# Altium schematic symbol library 传感器.SchLib: 1 symbol
Pins are listed as number, name and electrical type; pins without a type are passive.

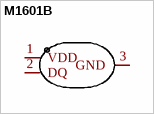
[diagram p0: symbol M1601B]

## M1601B
designator U?  (value not drawn)
Manufacturer: Mysentech(敏源传感); Add into BOM: yes; Resolution: ±0.5℃; Supply Voltage: 1.8V~5.5V; Standby Current: 100nA; Interface Type: 单总线; Symbol: M1601B; Device: M1601B; LCSC Part Name: 单总线数字温度传感器; Supplier Part: C2843547; Manufacturer Part: M1601B; Supplier Footprint: SOT-23; JLCPCB Part Class: Extended Part; Datasheet: https://atta.szlcsc.com/upload/public/pdf/source/20210705/C2843547_C6C05DD308B8FFE894FBD621B7D67F84.pdf; Supplier: LCSC; Convert to PCB: yes; Temperature range: -70℃~+150℃
footprint SOT23-3L (3x1.3x1mm(长宽高))
footprint SOT23-3M (3x1.3x1mm(长宽高))
footprint SOT23-3N (3x1.3x1mm(长宽高))
pins: 1 VDD, 2 DQ, 3 GND